# Altium footprint library Resistor.PcbLib: 14 footprints
Each footprint in its own frame and in the unit in brackets; x right, y up, seen from the top. Pads: shape width x height; smd on the part's side, far side on the other; paste and mask are expansions set on the pad; w line width, h text height; cw(c..) or ccw(c..) is an arc to the next point about the centre after c.
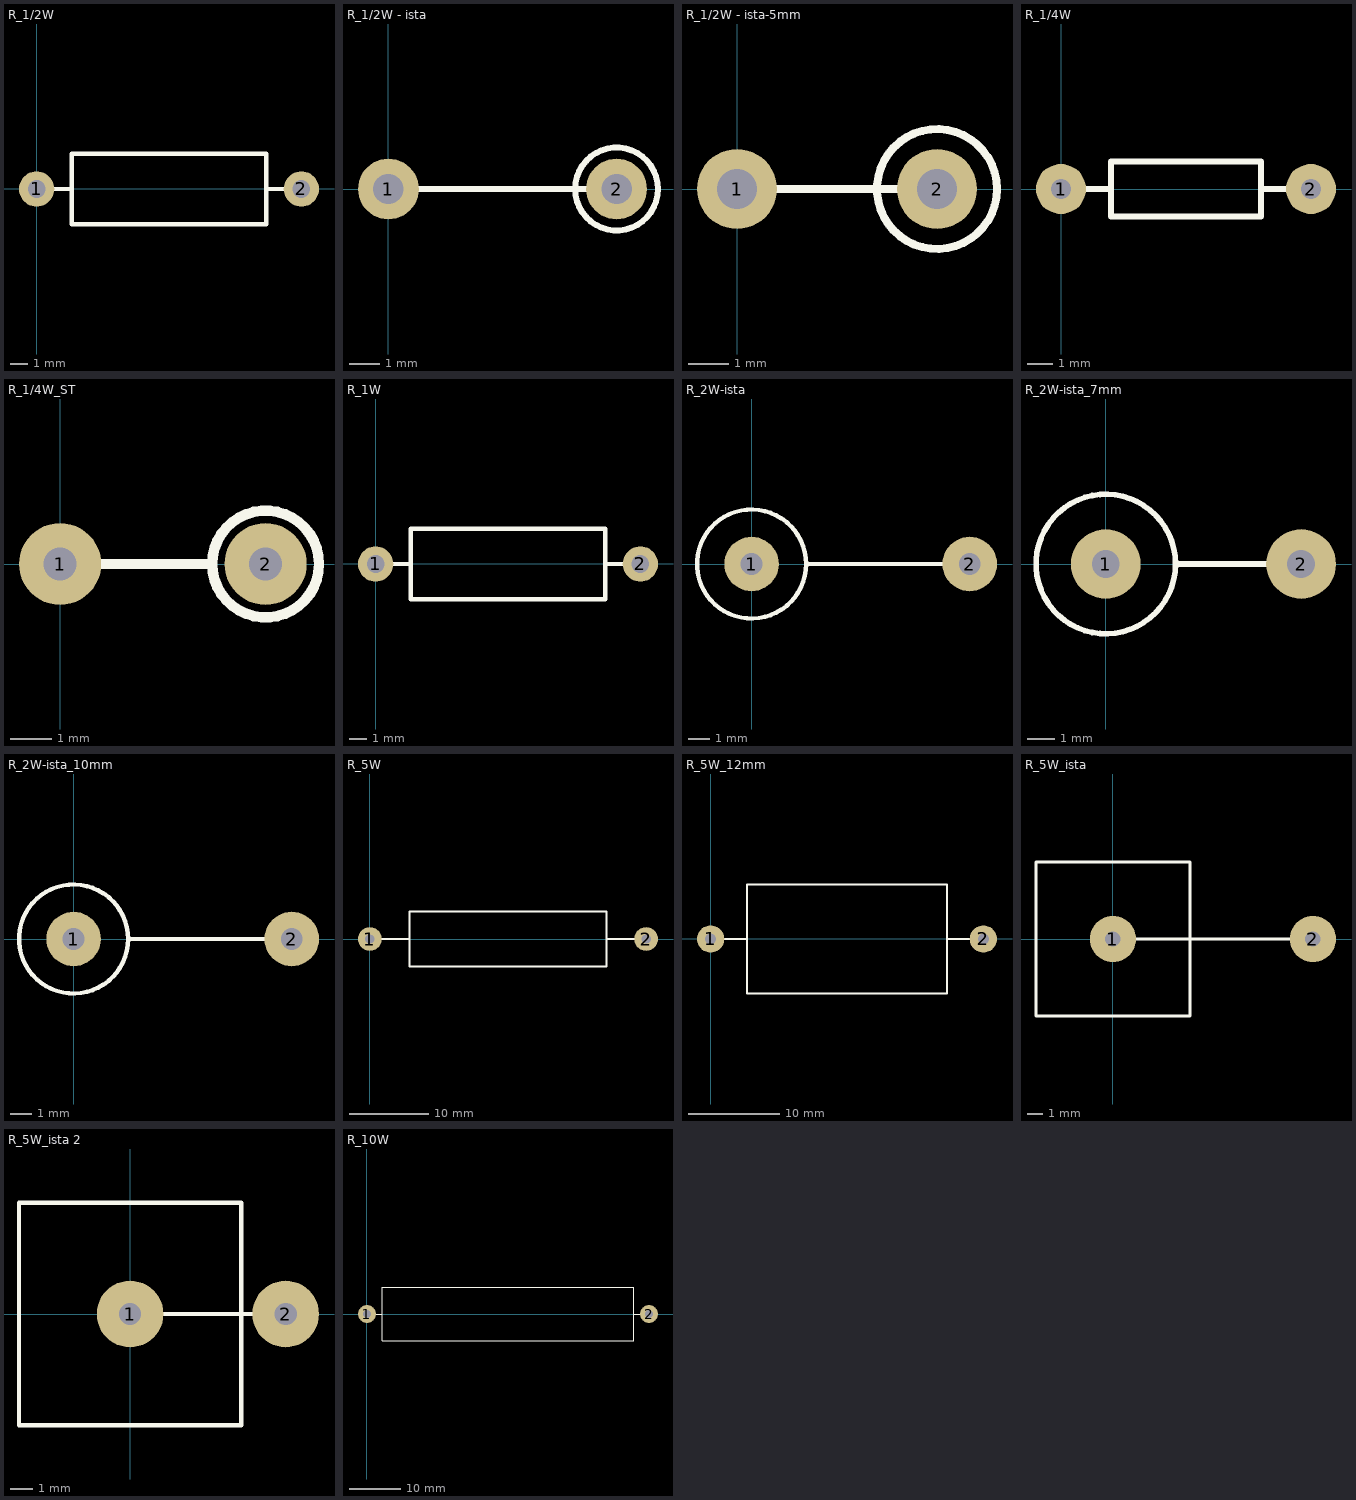
[diagram p0: the footprints below, top view; thin cyan lines are the x and y axes]

## R_1/2W [mm]
pads (2):
  round 2 hole 1: 1(0,0) 2(15,0)
Top Overlay:
  lines w0.254: 0,0 1.992,0 ; 13.008,0 15,0 ; 2,-2 2,2 13,2 13,-2 2,-2

## R_1/2W - ista [mm]
pads (2):
  round 2 hole 1: 1(0,0) 2(7.5,0)
Top Overlay:
  circle w0.2: c7.5,0 r1.361
  lines w0.2: 0,0 7.5,0

## R_1/2W - ista-5mm [mm]
pads (2):
  round 2 hole 1: 1(0,0) 2(5,0)
Top Overlay:
  circle w0.2: c5,0 r1.5
  lines w0.2: 0,0 5,0

## R_1/4W [mm]
pads (2):
  round 2 hole 0.8: 1(0,0) 2(10,0)
Top Overlay:
  lines w0.254: 0,0 1.997,0 ; 8.021,0 10,0 ; 2,-1.1 2,1.1 8,1.1 8,-1.1 2,-1.1

## R_1/4W_ST [mm]
pads (2):
  round 2 hole 0.8: 1(0,0) 2(5,0)
Top Overlay:
  circle w0.254: c5,0 r1.3
  lines w0.254: 0,0 3.683,0

## R_1W [mm]
pads (2):
  round 2 hole 1: 1(0,0) 2(15,0)
Top Overlay:
  lines w0.254: 0,0 1.992,0 ; 13.008,0 15,0 ; 2,-2 13,-2 13,2 2,2 2,-2

## R_2W-ista [mm]
pads (2):
  round 2.5 hole 1: 1(0,0) 2(10,0)
Top Overlay:
  circle w0.2: c0,0 r2.5
  lines w0.2: 2.5,0 10,0

## R_2W-ista_7mm [mm]
pads (2):
  round 2.5 hole 1: 1(0,0) 2(7,0)
Top Overlay:
  circle w0.2: c0,0 r2.5
  lines w0.2: 2.5,0 7,0

## R_2W-ista_10mm [mm]
pads (2):
  round 2.5 hole 1: 1(0,0) 2(10,0)
Top Overlay:
  circle w0.2: c0,0 r2.5
  lines w0.2: 2.5,0 10,0

## R_5W [mm]
pads (2):
  round 3 hole 1.2: 1(0,0) 2(35,0)
Top Overlay:
  lines w0.254: 0,0 4.97,0 ; 30.001,0 35,0 ; 5,-3.5 5,3.5 30,3.5 30,-3.5 5,-3.5

## R_5W_12mm [mm]
pads (2):
  round 3 hole 1.2: 1(0,0) 2(30,0)
Top Overlay:
  lines w0.254: 0,0 4,0 ; 26,0 30,0 ; 4,-6 4,6 26,6 26,-6 4,-6

## R_5W_ista [mm]
pads (2):
  round 3 hole 1: 1(0,0) 2(13,0)
Top Overlay:
  lines w0.2: 0,0 13,0 ; -5,-5 -5,5 5,5 5,-5 -5,-5

## R_5W_ista 2 [mm]
pads (2):
  round 3 hole 1: 1(0,0) 2(7,0)
Top Overlay:
  lines w0.2: 0,0 7,0 ; -5,-5 5,-5 5,5 -5,5 -5,-5

## R_10W [mm]
pads (2):
  round 3.5 hole 1.5: 1(0,0) 2(55,0)
Top Overlay:
  lines w0.2: 0,0 3,0 ; 52,0 55,0 ; 3,-5.25 52,-5.25 52,5.25 3,5.25 3,-5.25